# EAGLE library part INA199C2DCKT (library open_covg)
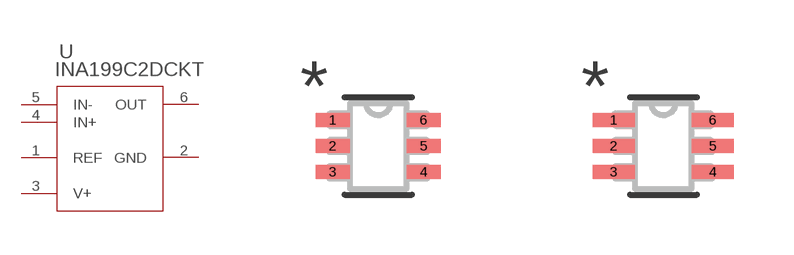
[diagram p24: symbol with the pads of DCK6_TEX; footprints DCK6_TEX, DCK6_TEX-M]

Designator prefix U

## INA199C2DCKT (BUILT_BY: EMA_Jessica; COPYRIGHT: Copyright (C) 2018 Accelerated Designs. All rights reserved; MANUFACTURER_PART_NUMBER: INA199C2DCKT; SOURCELIBRARY: TI_2019-03-25_3; VENDOR: Texas Instruments)  [DCK6_TEX]
1  REF  pas
2  GND  pwr
3  V+  pwr
4  IN+  in
5  IN-  in
6  OUT  out

## INA199C2DCKTDCK6_TEX-M (BUILT_BY: EMA_Jessica; COPYRIGHT: Copyright (C) 2018 Accelerated Designs. All rights reserved; MANUFACTURER_PART_NUMBER: INA199C2DCKT; SOURCELIBRARY: TI_2019-03-25_3; VENDOR: Texas Instruments)  [DCK6_TEX-M]
Pads as for DCK6_TEX

## INA199C2DCKTDCK6_TEX-L (BUILT_BY: EMA_Jessica; COPYRIGHT: Copyright (C) 2018 Accelerated Designs. All rights reserved; MANUFACTURER_PART_NUMBER: INA199C2DCKT; SOURCELIBRARY: TI_2019-03-25_3; VENDOR: Texas Instruments)  [DCK6_TEX-L]
Pads as for DCK6_TEX

## Footprint DCK6_TEX (pad centres in mm)
smd 0.851 x 0.356: 1 -1.137,0.65; 2 -1.137,0; 3 -1.137,-0.65; 4 1.137,-0.65; 5 1.137,0; 6 1.137,0.65

## Footprint DCK6_TEX-M (pad centres in mm)
smd 1.054 x 0.356: 1 -1.238,0.65; 2 -1.238,0; 3 -1.238,-0.65; 4 1.238,-0.65; 5 1.238,0; 6 1.238,0.65

## Footprint DCK6_TEX-L (pad centres in mm)
smd 0.648 x 0.305: 1 -1.035,0.65; 2 -1.035,0; 3 -1.035,-0.65; 4 1.035,-0.65; 5 1.035,0; 6 1.035,0.65